# Altium schematic symbol library Sensor-Schematics.SchLib: 2 symbols
Pins are listed as number, name and electrical type; pins without a type are passive.

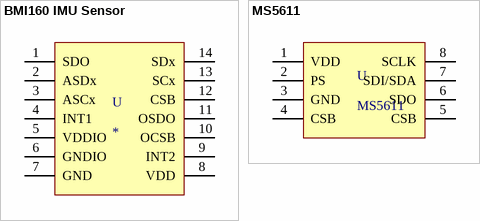
[diagram p0: symbols BMI160 IMU Sensor to MS5611]

## BMI160 IMU Sensor
designator U
BoschTech BMI160 6 Axis IMU Sensor
footprint BMI160 (BMI160 Bosch IMU Sensor)
pins: 1 SDO, 2 ASDx, 3 ASCx, 4 INT1, 5 VDDIO, 6 GNDIO, 7 GND, 8 VDD, 9 INT2, 10 OCSB, 11 OSDO, 12 CSB, 13 SCx, 14 SDx

## MS5611
designator U
MS5611 Barometer I2C/SPI
footprint MS5611-01BA03 (MS5611 Barometer Sensor I2C-SPI)
pins: 1 VDD, 2 PS, 3 GND, 4 CSB, 5 CSB, 6 SDO, 7 SDI/SDA, 8 SCLK